# EAGLE library part 1.44"-TFT-V1.1 (library tft_1_8_1_44_oled_0_96)
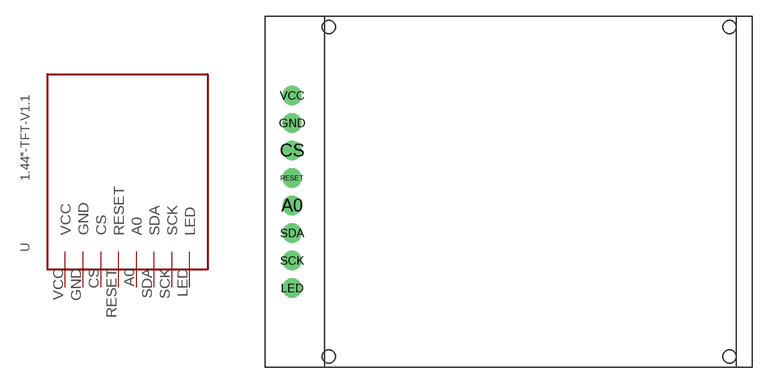
[diagram p1: symbol with the pads of 1.44-TFT-V1.1; footprint 1.44-TFT-V1.1]

Designator prefix -

## 1.44"-TFT-V1.1  [1.44-TFT-V1.1]
A0  A0
CS  CS
GND  GND
LED  LED
RESET  RESET
SCK  SCK
SDA  SDA
VCC  VCC

## Footprint 1.44-TFT-V1.1 (pad centres in mm)
drill 1 pad 1.778: A0 0,7.62; CS 0,12.7; GND 0,15.24; LED 0,0; RESET 0,10.16; SCK 0,2.54; SDA 0,5.08; VCC 0,17.78